# Altium integrated library TI_Logic_Flip-Flop,Latch,Register.IntLib: 2598 symbols (part 16 of 122)
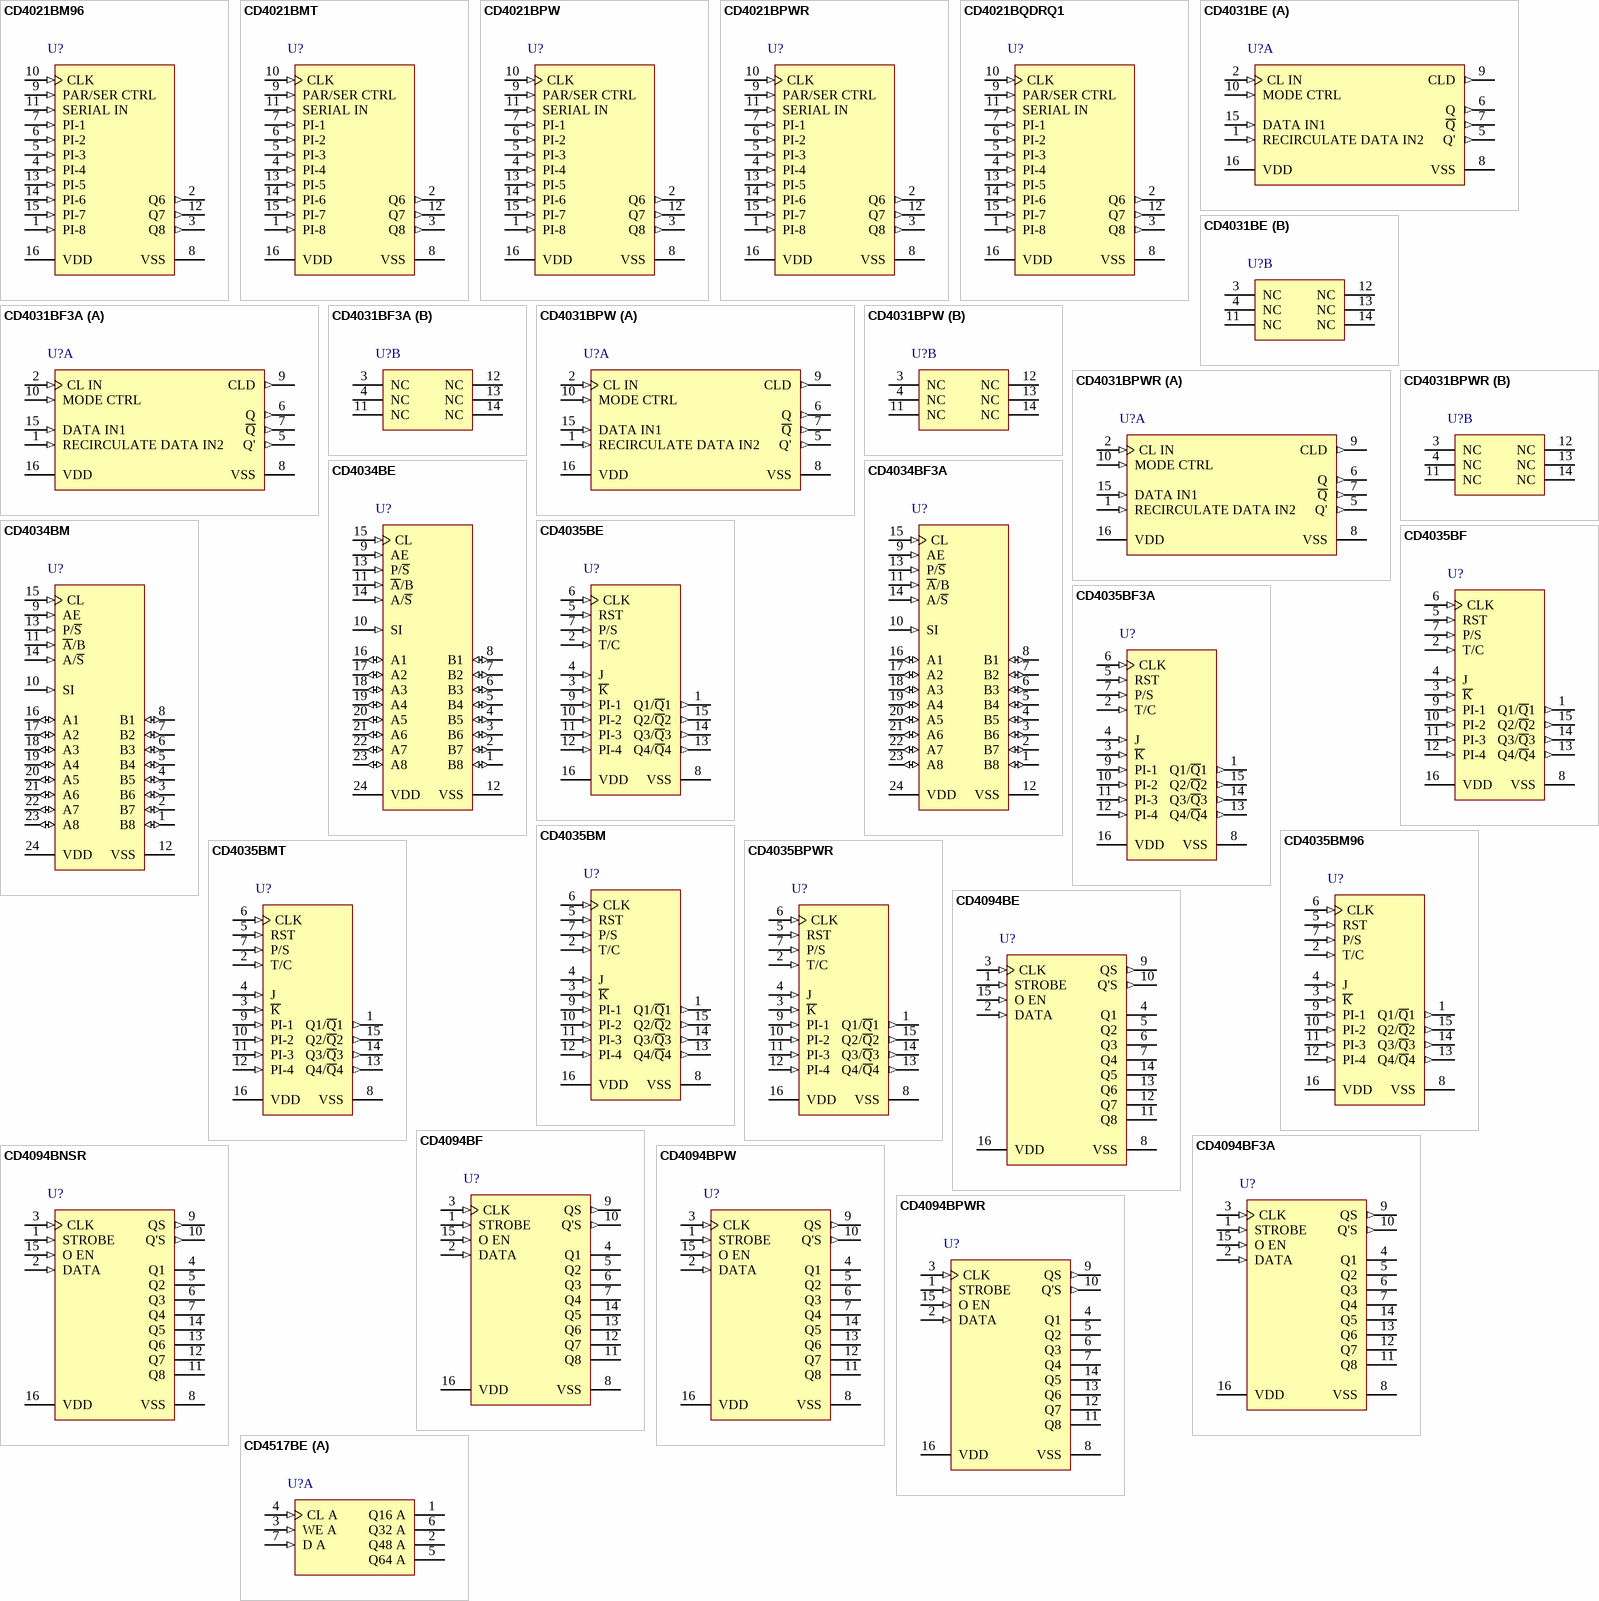
[diagram p154: symbols CD4021BM96 to CD4517BE]

## CD4094BNSR
designator U?
CMOS 8-Stage Shift-and-Store Bus Register, NS0016A, LARGE T&R; Generic Part Number: CD4094B; Manufacturer: Texas Instruments; PartNumber: CD4094BNSR; Technology Family: CD4000; VCC(Min)(V): 3; VCC(Max)(V): 18; Voltage(Nom)(V): 10; F @ Nom Voltage(Max)(Mhz): 8; ICC @ Nom Voltage(Max)(mA): 0.3; tpd @ Nom Voltage(Max)(ns): 250; Output Drive (IOL/IOH)(Max)(mA): 1.5/-1.5; 3-State Output: No; Rating: Catalog; DatasheetVersion: SCHS063B; PackageReference: NS0016A; Input Type: CMOS; Output Type: CMOS; Operating Temperature Range(C): -55 to 125; Bits: 8; ComponentLink1Description: Manufacturer URL; ComponentLink1URL: http://www.ti.com/; ComponentLink2Description: Datasheet; ComponentLink2URL: http://www.ti.com/lit/ds/symlink/cd4094b.pdf; ComponentLink3Description: Package Specification; ComponentLink3URL: http://www.ti.com/lit/ml/msop002a/msop002a.pdf
footprint NS0016A_N (SOIC,16-Leads,Body 10.5x5.6mm,Pitch 1.27mm,IPC Medium Density)
footprint NS0016A_M (SOIC,16-Leads,Body 10.5x5.6mm,Pitch 1.27mm,IPC Low Density)
footprint NS0016A_L (SOIC,16-Leads,Body 10.5x5.6mm,Pitch 1.27mm,IPC High Density)
pins: 1 STROBE (in), 2 DATA (in), 3 CLK (in), 4 Q1 (hiz), 5 Q2 (hiz), 6 Q3 (hiz), 7 Q4 (hiz), 8 VSS (power), 9 QS (out), 10 Q'S (out), 11 Q8 (hiz), 12 Q7 (hiz), 13 Q6 (hiz), 14 Q5 (hiz), 15 O EN (in), 16 VDD (power)

## CD4094BPW
designator U?
CMOS 8-Stage Shift-and-Store Bus Register, PW0016A, TUBE; Generic Part Number: CD4094B; Manufacturer: Texas Instruments; PartNumber: CD4094BPW; Technology Family: CD4000; VCC(Min)(V): 3; VCC(Max)(V): 18; Voltage(Nom)(V): 10; F @ Nom Voltage(Max)(Mhz): 8; ICC @ Nom Voltage(Max)(mA): 0.3; tpd @ Nom Voltage(Max)(ns): 250; Output Drive (IOL/IOH)(Max)(mA): 1.5/-1.5; 3-State Output: No; Rating: Catalog; DatasheetVersion: SCHS063B; PackageReference: PW0016A; Input Type: CMOS; Output Type: CMOS; Operating Temperature Range(C): -55 to 125; Bits: 8; Code_JEDEC: MO-153; ComponentLink1Description: Manufacturer URL; ComponentLink1URL: http://www.ti.com/; ComponentLink2Description: Datasheet; ComponentLink2URL: http://www.ti.com/lit/ds/symlink/cd4094b.pdf; ComponentLink3Description: Package Specification; ComponentLink3URL: http://www.ti.com/lit/ml/mpds361/mpds361.pdf
footprint PW0016A_N (SOP, 16-Leads, Body 5.1x4.5mm, Pitch 0.65mm, IPC Medium Density)
footprint PW0016A_M (SOP, 16-Leads, Body 5.1x4.5mm, Pitch 0.65mm, IPC Low Density)
footprint PW0016A_L (SOP, 16-Leads, Body 5.1x4.5mm, Pitch 0.65mm, IPC High Density)
pins: 1 STROBE (in), 2 DATA (in), 3 CLK (in), 4 Q1 (hiz), 5 Q2 (hiz), 6 Q3 (hiz), 7 Q4 (hiz), 8 VSS (power), 9 QS (out), 10 Q'S (out), 11 Q8 (hiz), 12 Q7 (hiz), 13 Q6 (hiz), 14 Q5 (hiz), 15 O EN (in), 16 VDD (power)

## CD4094BPWR
designator U?
CMOS 8-Stage Shift-and-Store Bus Register, PW0016A, LARGE T&R; Generic Part Number: CD4094B; Manufacturer: Texas Instruments; PartNumber: CD4094BPWR; Technology Family: CD4000; VCC(Min)(V): 3; VCC(Max)(V): 18; Voltage(Nom)(V): 10; F @ Nom Voltage(Max)(Mhz): 8; ICC @ Nom Voltage(Max)(mA): 0.3; tpd @ Nom Voltage(Max)(ns): 250; Output Drive (IOL/IOH)(Max)(mA): 1.5/-1.5; 3-State Output: No; Rating: Catalog; DatasheetVersion: SCHS063B; PackageReference: PW0016A; Input Type: CMOS; Output Type: CMOS; Operating Temperature Range(C): -55 to 125; Bits: 8; Code_JEDEC: MO-153; ComponentLink1Description: Manufacturer URL; ComponentLink1URL: http://www.ti.com/; ComponentLink2Description: Datasheet; ComponentLink2URL: http://www.ti.com/lit/ds/symlink/cd4094b.pdf; ComponentLink3Description: Package Specification; ComponentLink3URL: http://www.ti.com/lit/ml/mpds361/mpds361.pdf
footprint PW0016A_N (SOP, 16-Leads, Body 5.1x4.5mm, Pitch 0.65mm, IPC Medium Density)
footprint PW0016A_M (SOP, 16-Leads, Body 5.1x4.5mm, Pitch 0.65mm, IPC Low Density)
footprint PW0016A_L (SOP, 16-Leads, Body 5.1x4.5mm, Pitch 0.65mm, IPC High Density)
pins: 1 STROBE (in), 2 DATA (in), 3 CLK (in), 4 Q1 (hiz), 5 Q2 (hiz), 6 Q3 (hiz), 7 Q4 (hiz), 8 VSS (power), 9 QS (out), 10 Q'S (out), 11 Q8 (hiz), 12 Q7 (hiz), 13 Q6 (hiz), 14 Q5 (hiz), 15 O EN (in), 16 VDD (power)

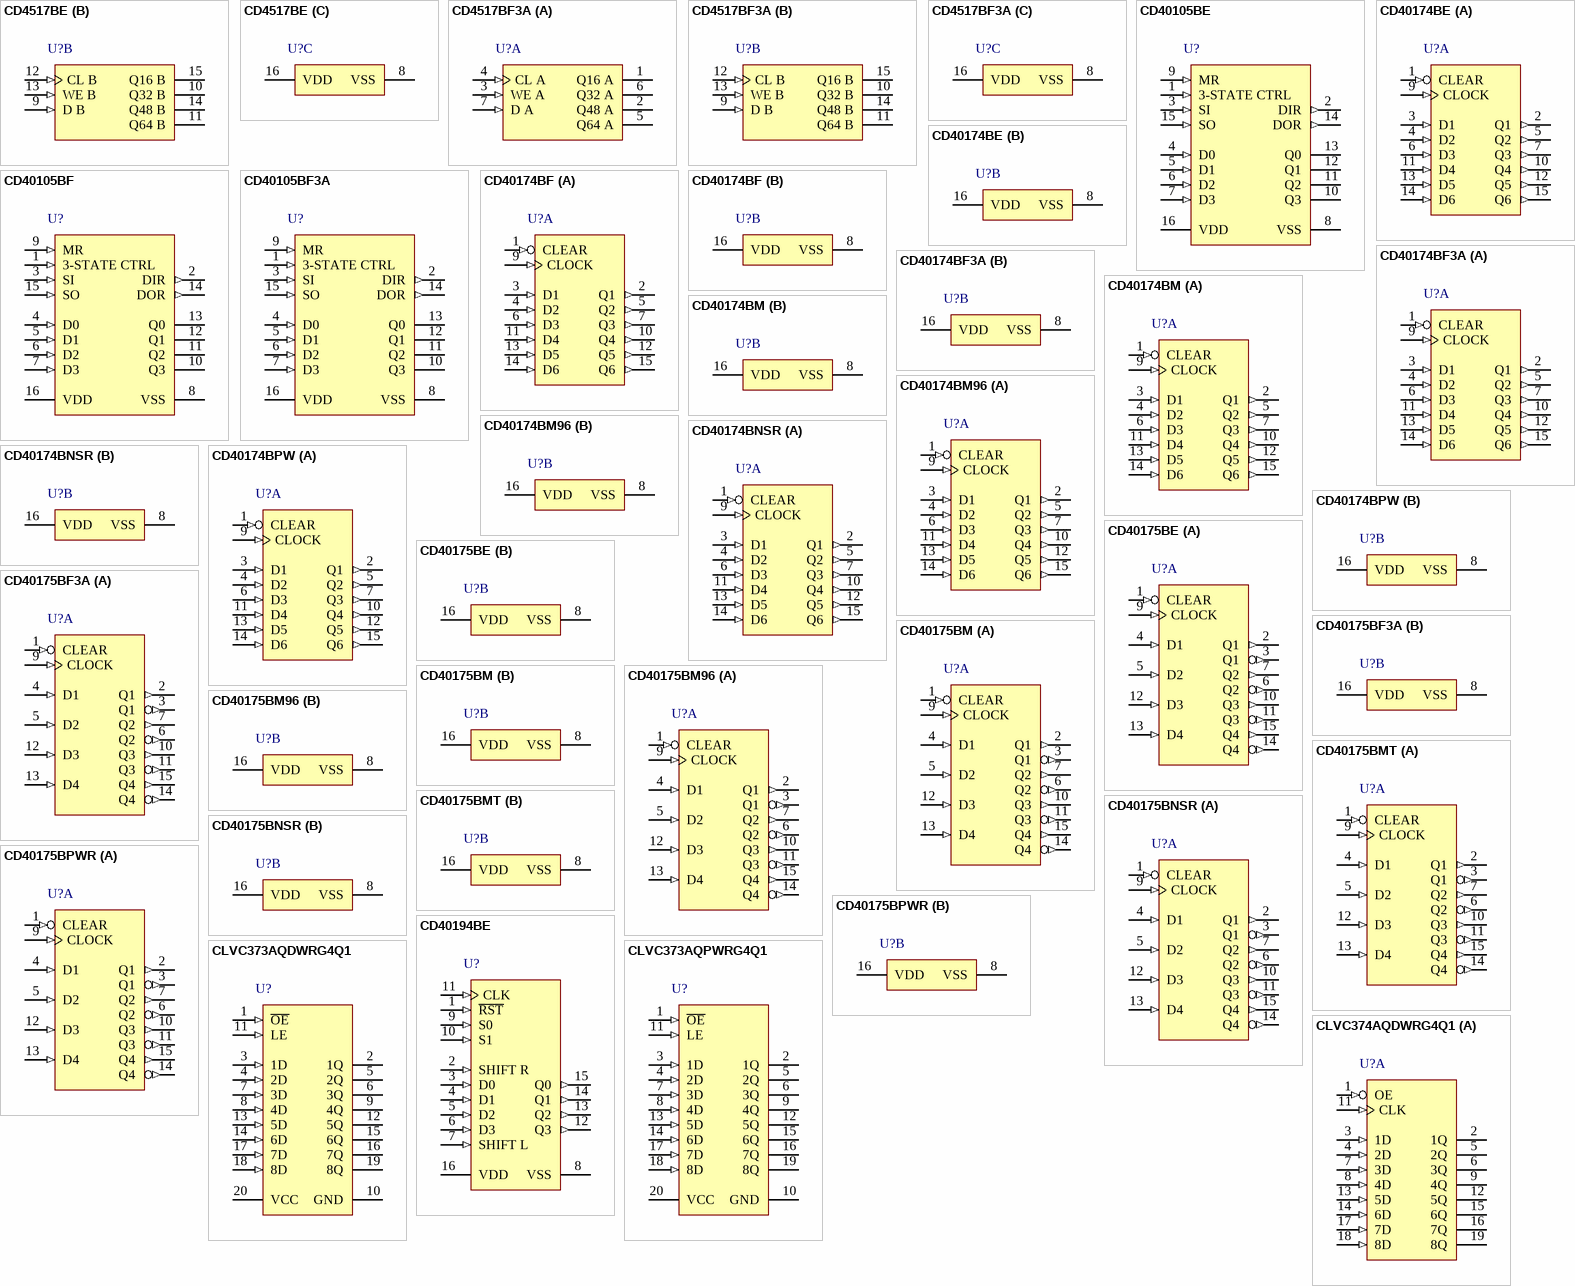
[diagram p22: symbols CD4517BE to CLVC374AQDWRG4Q1]

## CD4517BE
designator U?
CMOS Dual 64-Stage Static Shift Register, N0016A, TUBE; Generic Part Number: CD4517B; Manufacturer: Texas Instruments; PartNumber: CD4517BE; Technology Family: CD4000; VCC(Min)(V): 3; VCC(Max)(V): 18; Voltage(Nom)(V): 10; F @ Nom Voltage(Max)(Mhz): 8; ICC @ Nom Voltage(Max)(mA): 0.3; tpd @ Nom Voltage(Max)(ns): 220; Output Drive (IOL/IOH)(Max)(mA): 1.5/-1.5; 3-State Output: No; Rating: Catalog; DatasheetVersion: SCHS075; PackageReference: N0016A; Input Type: CMOS; Output Type: CMOS; Operating Temperature Range(C): -55 to 125; Bits: 8; Code_JEDEC: MS-001; ComponentLink1Description: Manufacturer URL; ComponentLink1URL: http://www.ti.com/; ComponentLink2Description: Datasheet; ComponentLink2URL: http://www.ti.com/lit/ds/symlink/cd4517b.pdf; ComponentLink3Description: Package Specification; ComponentLink3URL: http://www.ti.com/lit/ml/mpdi002c/mpdi002c.pdf
footprint N0016A (DIP, 16-Leads, Body 19.7x6.6mm, Pitch 2.54mm)
part A pins: 1 Q16 A (hiz), 2 Q48 A (hiz), 3 WE A (in), 4 CL A (in), 5 Q64 A (hiz), 6 Q32 A (hiz), 7 D A (in)
part B pins: 9 D B (in), 10 Q32 B (hiz), 11 Q64 B (hiz), 12 CL B (in), 13 WE B (in), 14 Q48 B (hiz), 15 Q16 B (hiz)
part C pins: 8 VSS (power), 16 VDD (power)

## CD4517BF3A
designator U?
CMOS Dual 64-Stage Static Shift Register, J0016A, TUBE; Generic Part Number: CD4517B-MIL; Manufacturer: Texas Instruments; PartNumber: CD4517BF3A; Technology Family: CD4000; VCC(Min)(V): 3; VCC(Max)(V): 18; Voltage(Nom)(V): 10; F @ Nom Voltage(Max)(Mhz): 8; ICC @ Nom Voltage(Max)(mA): 0.3; tpd @ Nom Voltage(Max)(ns): 220; Output Drive (IOL/IOH)(Max)(mA): 1.5/-1.5; 3-State Output: No; Rating: Military; DatasheetVersion: SCHS075; PackageReference: J0016A; Input Type: CMOS; Output Type: CMOS; Operating Temperature Range(C): -55 to 125; ComponentLink1Description: Manufacturer URL; ComponentLink1URL: http://www.ti.com/; ComponentLink2Description: Datasheet; ComponentLink2URL: http://www.ti.com/lit/ds/symlink/cd4517b-mil.pdf; ComponentLink3Description: Package Specification; ComponentLink3URL: http://www.ti.com/lit/ml/mcer002d/mcer002d.pdf
footprint J0016A (DIP, 16-Leads, Body 21.35x7.2mm, Pitch 2.54mm)
part A pins: 1 Q16 A (hiz), 2 Q48 A (hiz), 3 WE A (in), 4 CL A (in), 5 Q64 A (hiz), 6 Q32 A (hiz), 7 D A (in)
part B pins: 9 D B (in), 10 Q32 B (hiz), 11 Q64 B (hiz), 12 CL B (in), 13 WE B (in), 14 Q48 B (hiz), 15 Q16 B (hiz)
part C pins: 8 VSS (power), 16 VDD (power)

## CD40105BE
designator U?
CMOS 4-Bit-by-16-Word FIFO Register, N0016A, TUBE; Generic Part Number: CD40105B; Manufacturer: Texas Instruments; PartNumber: CD40105BE; Voltage Nodes(V): 5, 10, 15; Rating: Military; DatasheetVersion: SCHS096; PackageReference: N0016A; Operating Temperature Range(C): -55 to 125; Code_JEDEC: MS-001; ComponentLink1Description: Manufacturer URL; ComponentLink1URL: http://www.ti.com/; ComponentLink2Description: Datasheet; ComponentLink2URL: http://www.ti.com/lit/ds/symlink/cd40105b.pdf; ComponentLink3Description: Package Specification; ComponentLink3URL: http://www.ti.com/lit/ml/mpdi002c/mpdi002c.pdf
footprint N0016A (DIP, 16-Leads, Body 19.7x6.6mm, Pitch 2.54mm)
pins: 1 3-STATE CTRL (in), 2 DIR (out), 3 SI (in), 4 D0 (in), 5 D1 (in), 6 D2 (in), 7 D3 (in), 8 VSS (power), 9 MR (in), 10 Q3 (hiz), 11 Q2 (hiz), 12 Q1 (hiz), 13 Q0 (hiz), 14 DOR (out), 15 SO (in), 16 VDD (power)

## CD40105BF
designator U?
CMOS 4-Bit-by-16-Word FIFO Register, J0016A, TUBE; Generic Part Number: CD40105B-MIL; Manufacturer: Texas Instruments; PartNumber: CD40105BF; Voltage Nodes(V): 5, 10, 15; Rating: Military; DatasheetVersion: SCHS096; PackageReference: J0016A; Operating Temperature Range(C): -55 to 125; ComponentLink1Description: Manufacturer URL; ComponentLink1URL: http://www.ti.com/; ComponentLink2Description: Datasheet; ComponentLink2URL: http://www.ti.com/lit/ds/symlink/cd40105b-mil.pdf; ComponentLink3Description: Package Specification; ComponentLink3URL: http://www.ti.com/lit/ml/mcer002d/mcer002d.pdf
footprint J0016A (DIP, 16-Leads, Body 21.35x7.2mm, Pitch 2.54mm)
pins: 1 3-STATE CTRL (in), 2 DIR (out), 3 SI (in), 4 D0 (in), 5 D1 (in), 6 D2 (in), 7 D3 (in), 8 VSS (power), 9 MR (in), 10 Q3 (hiz), 11 Q2 (hiz), 12 Q1 (hiz), 13 Q0 (hiz), 14 DOR (out), 15 SO (in), 16 VDD (power)

## CD40105BF3A
designator U?
CMOS 4-Bit-by-16-Word FIFO Register, J0016A, TUBE; Generic Part Number: CD40105B-MIL; Manufacturer: Texas Instruments; PartNumber: CD40105BF3A; Voltage Nodes(V): 5, 10, 15; Rating: Military; DatasheetVersion: SCHS096; PackageReference: J0016A; Operating Temperature Range(C): -55 to 125; ComponentLink1Description: Manufacturer URL; ComponentLink1URL: http://www.ti.com/; ComponentLink2Description: Datasheet; ComponentLink2URL: http://www.ti.com/lit/ds/symlink/cd40105b-mil.pdf; ComponentLink3Description: Package Specification; ComponentLink3URL: http://www.ti.com/lit/ml/mcer002d/mcer002d.pdf
footprint J0016A (DIP, 16-Leads, Body 21.35x7.2mm, Pitch 2.54mm)
pins: 1 3-STATE CTRL (in), 2 DIR (out), 3 SI (in), 4 D0 (in), 5 D1 (in), 6 D2 (in), 7 D3 (in), 8 VSS (power), 9 MR (in), 10 Q3 (hiz), 11 Q2 (hiz), 12 Q1 (hiz), 13 Q0 (hiz), 14 DOR (out), 15 SO (in), 16 VDD (power)

## CD40174BE
designator U?
CMOS Hex D-Type Flip-Flop, N0016A, TUBE; Generic Part Number: CD40174B; Manufacturer: Texas Instruments; PartNumber: CD40174BE; VCC(Max)(V): 18; VCC(Min)(V): 3; ICC @ Nom Voltage(Max)(mA): 0.06; Bits(#): 6; F @ Nom Voltage(Max)(Mhz): 8; Rating: Catalog; Technology Family: CD4000; Voltage(Nom)(V): 10; Schmitt Trigger: No; Output Drive (IOL/IOH)(Max)(mA): 1.5/-1.5; Output Logic: Non-inverted; tpd @ Nom Voltage(Max)(ns): 140; DatasheetVersion: SCHS104C; PackageReference: N0016A; Supplier 1: Digi-Key; Supplier Part Number 1: 296-3508-5-ND; Supplier 2: Farnell; Supplier Part Number 2: 9594540; Supplier 3: Newark; Supplier Part Number 3: 68K1098; Supplier 4: Mouser; Supplier Part Number 4: 595-CD40174BE; Output Type: CMOS; Input Type: CMOS; Operating Temperature Range(C): -55 to 125; 3-State Output: No; Code_JEDEC: MS-001; ComponentLink1Description: Manufacturer URL; ComponentLink1URL: http://www.ti.com/; ComponentLink2Description: Datasheet; ComponentLink2URL: http://www.ti.com/lit/ds/symlink/cd40174b.pdf; ComponentLink3Description: Package Specification; ComponentLink3URL: http://www.ti.com/lit/ml/mpdi002c/mpdi002c.pdf
footprint N0016A (DIP, 16-Leads, Body 19.7x6.6mm, Pitch 2.54mm)
part A pins: 1 CLEAR (in), 2 Q1 (out), 3 D1 (in), 4 D2 (in), 5 Q2 (out), 6 D3 (in), 7 Q3 (out), 9 CLOCK (in), 10 Q4 (out), 11 D4 (in), 12 Q5 (out), 13 D5 (in), 14 D6 (in), 15 Q6 (out)
part B pins: 8 VSS (power), 16 VDD (power)

## CD40174BF
designator U?
CMOS Hex D-Type Flip-Flop, J0016A, TUBE; Generic Part Number: CD40174B-MIL; Manufacturer: Texas Instruments; PartNumber: CD40174BF; VCC(Max)(V): 18; VCC(Min)(V): 3; ICC @ Nom Voltage(Max)(mA): 0.06; Bits(#): 6; F @ Nom Voltage(Max)(Mhz): 8; Rating: Military; Technology Family: CD4000; Voltage(Nom)(V): 10; Schmitt Trigger: No; Output Drive (IOL/IOH)(Max)(mA): 1.5/-1.5; Output Logic: Non-inverted; tpd @ Nom Voltage(Max)(ns): 140; DatasheetVersion: SCHS104C; PackageReference: J0016A; Output Type: CMOS; Input Type: CMOS; Operating Temperature Range(C): -55 to 125; 3-State Output: No; ComponentLink1Description: Manufacturer URL; ComponentLink1URL: http://www.ti.com/; ComponentLink2Description: Datasheet; ComponentLink2URL: http://www.ti.com/lit/ds/symlink/cd40174b-mil.pdf; ComponentLink3Description: Package Specification; ComponentLink3URL: http://www.ti.com/lit/ml/mcer002d/mcer002d.pdf
footprint J0016A (DIP, 16-Leads, Body 21.35x7.2mm, Pitch 2.54mm)
part A pins: 1 CLEAR (in), 2 Q1 (out), 3 D1 (in), 4 D2 (in), 5 Q2 (out), 6 D3 (in), 7 Q3 (out), 9 CLOCK (in), 10 Q4 (out), 11 D4 (in), 12 Q5 (out), 13 D5 (in), 14 D6 (in), 15 Q6 (out)
part B pins: 8 VSS (power), 16 VDD (power)

## CD40174BF3A
designator U?
CMOS Hex D-Type Flip-Flop, J0016A, TUBE; Generic Part Number: CD40174B-MIL; Manufacturer: Texas Instruments; PartNumber: CD40174BF3A; VCC(Max)(V): 18; VCC(Min)(V): 3; ICC @ Nom Voltage(Max)(mA): 0.06; Bits(#): 6; F @ Nom Voltage(Max)(Mhz): 8; Rating: Military; Technology Family: CD4000; Voltage(Nom)(V): 10; Schmitt Trigger: No; Output Drive (IOL/IOH)(Max)(mA): 1.5/-1.5; Output Logic: Non-inverted; tpd @ Nom Voltage(Max)(ns): 140; DatasheetVersion: SCHS104C; PackageReference: J0016A; Output Type: CMOS; Input Type: CMOS; Operating Temperature Range(C): -55 to 125; 3-State Output: No; ComponentLink1Description: Manufacturer URL; ComponentLink1URL: http://www.ti.com/; ComponentLink2Description: Datasheet; ComponentLink2URL: http://www.ti.com/lit/ds/symlink/cd40174b-mil.pdf; ComponentLink3Description: Package Specification; ComponentLink3URL: http://www.ti.com/lit/ml/mcer002d/mcer002d.pdf
footprint J0016A (DIP, 16-Leads, Body 21.35x7.2mm, Pitch 2.54mm)
part A pins: 1 CLEAR (in), 2 Q1 (out), 3 D1 (in), 4 D2 (in), 5 Q2 (out), 6 D3 (in), 7 Q3 (out), 9 CLOCK (in), 10 Q4 (out), 11 D4 (in), 12 Q5 (out), 13 D5 (in), 14 D6 (in), 15 Q6 (out)
part B pins: 8 VSS (power), 16 VDD (power)

## CD40174BM
designator U?
CMOS Hex D-Type Flip-Flop, D0016A, TUBE; Generic Part Number: CD40174B; Manufacturer: Texas Instruments; PartNumber: CD40174BM; VCC(Max)(V): 18; VCC(Min)(V): 3; ICC @ Nom Voltage(Max)(mA): 0.06; Bits(#): 6; F @ Nom Voltage(Max)(Mhz): 8; Rating: Catalog; Technology Family: CD4000; Voltage(Nom)(V): 10; Schmitt Trigger: No; Output Drive (IOL/IOH)(Max)(mA): 1.5/-1.5; Output Logic: Non-inverted; tpd @ Nom Voltage(Max)(ns): 140; DatasheetVersion: SCHS104C; PackageReference: D0016A; Supplier 1: Digi-Key; Supplier Part Number 1: CD40174BM-ND; Supplier 2: Farnell; Supplier Part Number 2: 1741071; Supplier 3: Newark; Supplier Part Number 3: 50R5016; Supplier 4: Mouser; Supplier Part Number 4: 595-CD40174BM; Output Type: CMOS; Input Type: CMOS; Operating Temperature Range(C): -55 to 125; 3-State Output: No; Code_JEDEC: MS-012 variation AC; ComponentLink1Description: Manufacturer URL; ComponentLink1URL: http://www.ti.com/; ComponentLink2Description: Datasheet; ComponentLink2URL: http://www.ti.com/lit/ds/symlink/cd40174b.pdf; ComponentLink3Description: Package Specification; ComponentLink3URL: http://www.ti.com/lit/ml/mpds178g/mpds178g.pdf
footprint D0016A_N (SOIC, 16-Leads, Body 10x4mm, Pitch 1.27mm, IPC Medium Density)
footprint D0016A_M (SOIC, 16-Leads, Body 10x4mm, Pitch 1.27mm, IPC Low Density)
footprint D0016A_L (SOIC, 16-Leads, Body 10x4mm, Pitch 1.27mm, IPC High Density)
part A pins: 1 CLEAR (in), 2 Q1 (out), 3 D1 (in), 4 D2 (in), 5 Q2 (out), 6 D3 (in), 7 Q3 (out), 9 CLOCK (in), 10 Q4 (out), 11 D4 (in), 12 Q5 (out), 13 D5 (in), 14 D6 (in), 15 Q6 (out)
part B pins: 8 VSS (power), 16 VDD (power)

## CD40174BM96
designator U?
CMOS Hex D-Type Flip-Flop, D0016A, LARGE T&R; Generic Part Number: CD40174B; Manufacturer: Texas Instruments; PartNumber: CD40174BM96; VCC(Max)(V): 18; VCC(Min)(V): 3; ICC @ Nom Voltage(Max)(mA): 0.06; Bits(#): 6; F @ Nom Voltage(Max)(Mhz): 8; Rating: Catalog; Technology Family: CD4000; Voltage(Nom)(V): 10; Schmitt Trigger: No; Output Drive (IOL/IOH)(Max)(mA): 1.5/-1.5; Output Logic: Non-inverted; tpd @ Nom Voltage(Max)(ns): 140; DatasheetVersion: SCHS104C; PackageReference: D0016A; Supplier 1: Digi-Key; Supplier Part Number 1: 296-31490-2-ND; Supplier 2: Digi-Key; Supplier Part Number 2: 296-31490-1-ND; Supplier 3: Digi-Key; Supplier Part Number 3: 296-31490-6-ND; Supplier 4: Mouser; Supplier Part Number 4: 595-CD40174BM96; Output Type: CMOS; Input Type: CMOS; Operating Temperature Range(C): -55 to 125; 3-State Output: No; Code_JEDEC: MS-012 variation AC; ComponentLink1Description: Manufacturer URL; ComponentLink1URL: http://www.ti.com/; ComponentLink2Description: Datasheet; ComponentLink2URL: http://www.ti.com/lit/ds/symlink/cd40174b.pdf; ComponentLink3Description: Package Specification; ComponentLink3URL: http://www.ti.com/lit/ml/mpds178g/mpds178g.pdf
footprint D0016A_N (SOIC, 16-Leads, Body 10x4mm, Pitch 1.27mm, IPC Medium Density)
footprint D0016A_M (SOIC, 16-Leads, Body 10x4mm, Pitch 1.27mm, IPC Low Density)
footprint D0016A_L (SOIC, 16-Leads, Body 10x4mm, Pitch 1.27mm, IPC High Density)
part A pins: 1 CLEAR (in), 2 Q1 (out), 3 D1 (in), 4 D2 (in), 5 Q2 (out), 6 D3 (in), 7 Q3 (out), 9 CLOCK (in), 10 Q4 (out), 11 D4 (in), 12 Q5 (out), 13 D5 (in), 14 D6 (in), 15 Q6 (out)
part B pins: 8 VSS (power), 16 VDD (power)

## CD40174BNSR
designator U?
CMOS Hex D-Type Flip-Flop, NS0016A, LARGE T&R; Generic Part Number: CD40174B; Manufacturer: Texas Instruments; PartNumber: CD40174BNSR; VCC(Max)(V): 18; VCC(Min)(V): 3; ICC @ Nom Voltage(Max)(mA): 0.06; Bits(#): 6; F @ Nom Voltage(Max)(Mhz): 8; Rating: Catalog; Technology Family: CD4000; Voltage(Nom)(V): 10; Schmitt Trigger: No; Output Drive (IOL/IOH)(Max)(mA): 1.5/-1.5; Output Logic: Non-inverted; tpd @ Nom Voltage(Max)(ns): 140; DatasheetVersion: SCHS104C; PackageReference: NS0016A; Supplier 1: Digi-Key; Supplier Part Number 1: 296-29110-2-ND; Supplier 2: Digi-Key; Supplier Part Number 2: 296-29110-1-ND; Supplier 3: Digi-Key; Supplier Part Number 3: 296-29110-6-ND; Supplier 4: Mouser; Supplier Part Number 4: 595-CD40174BNSR; Output Type: CMOS; Input Type: CMOS; Operating Temperature Range(C): -55 to 125; 3-State Output: No; ComponentLink1Description: Manufacturer URL; ComponentLink1URL: http://www.ti.com/; ComponentLink2Description: Datasheet; ComponentLink2URL: http://www.ti.com/lit/ds/symlink/cd40174b.pdf; ComponentLink3Description: Package Specification; ComponentLink3URL: http://www.ti.com/lit/ml/msop002a/msop002a.pdf
footprint NS0016A_N (SOIC,16-Leads,Body 10.5x5.6mm,Pitch 1.27mm,IPC Medium Density)
footprint NS0016A_M (SOIC,16-Leads,Body 10.5x5.6mm,Pitch 1.27mm,IPC Low Density)
footprint NS0016A_L (SOIC,16-Leads,Body 10.5x5.6mm,Pitch 1.27mm,IPC High Density)
part A pins: 1 CLEAR (in), 2 Q1 (out), 3 D1 (in), 4 D2 (in), 5 Q2 (out), 6 D3 (in), 7 Q3 (out), 9 CLOCK (in), 10 Q4 (out), 11 D4 (in), 12 Q5 (out), 13 D5 (in), 14 D6 (in), 15 Q6 (out)
part B pins: 8 VSS (power), 16 VDD (power)

## CD40174BPW
designator U?
CMOS Hex D-Type Flip-Flop, PW0016A, TUBE; Generic Part Number: CD40174B; Manufacturer: Texas Instruments; PartNumber: CD40174BPW; VCC(Max)(V): 18; VCC(Min)(V): 3; ICC @ Nom Voltage(Max)(mA): 0.06; Bits(#): 6; F @ Nom Voltage(Max)(Mhz): 8; Rating: Catalog; Technology Family: CD4000; Voltage(Nom)(V): 10; Schmitt Trigger: No; Output Drive (IOL/IOH)(Max)(mA): 1.5/-1.5; Output Logic: Non-inverted; tpd @ Nom Voltage(Max)(ns): 140; DatasheetVersion: SCHS104C; PackageReference: PW0016A; Supplier 1: Digi-Key; Supplier Part Number 1: 296-32866-5-ND; Supplier 2: Farnell; Supplier Part Number 2: 1753384; Supplier 3: Mouser; Supplier Part Number 3: 595-CD40174BPW; Output Type: CMOS; Input Type: CMOS; Operating Temperature Range(C): -55 to 125; 3-State Output: No; Code_JEDEC: MO-153; ComponentLink1Description: Manufacturer URL; ComponentLink1URL: http://www.ti.com/; ComponentLink2Description: Datasheet; ComponentLink2URL: http://www.ti.com/lit/ds/symlink/cd40174b.pdf; ComponentLink3Description: Package Specification; ComponentLink3URL: http://www.ti.com/lit/ml/mpds361/mpds361.pdf
footprint PW0016A_N (SOP, 16-Leads, Body 5.1x4.5mm, Pitch 0.65mm, IPC Medium Density)
footprint PW0016A_M (SOP, 16-Leads, Body 5.1x4.5mm, Pitch 0.65mm, IPC Low Density)
footprint PW0016A_L (SOP, 16-Leads, Body 5.1x4.5mm, Pitch 0.65mm, IPC High Density)
part A pins: 1 CLEAR (in), 2 Q1 (out), 3 D1 (in), 4 D2 (in), 5 Q2 (out), 6 D3 (in), 7 Q3 (out), 9 CLOCK (in), 10 Q4 (out), 11 D4 (in), 12 Q5 (out), 13 D5 (in), 14 D6 (in), 15 Q6 (out)
part B pins: 8 VSS (power), 16 VDD (power)

## CD40175BE
designator U?
CMOS Quad D-Type Flip-Flop, N0016A, TUBE; Generic Part Number: CD40175B; Manufacturer: Texas Instruments; PartNumber: CD40175BE; VCC(Max)(V): 18; VCC(Min)(V): 3; ICC @ Nom Voltage(Max)(mA): 0.06; Bits(#): 4; F @ Nom Voltage(Max)(Mhz): 8; Rating: Military; Technology Family: CD4000; Voltage(Nom)(V): 10; Schmitt Trigger: No; Output Drive (IOL/IOH)(Max)(mA): 1.5/-1.5; Output Logic: Inverted,Non-inverted; tpd @ Nom Voltage(Max)(ns): 160; DatasheetVersion: SCHS105C; PackageReference: N0016A; Supplier 1: Digi-Key; Supplier Part Number 1: 296-14251-5-ND; Supplier 2: Farnell; Supplier Part Number 2: 1739830; Supplier 3: Mouser; Supplier Part Number 3: 595-CD40175BE; Output Type: CMOS; Input Type: CMOS; Operating Temperature Range(C): -55 to 125; 3-State Output: No; Code_JEDEC: MS-001; ComponentLink1Description: Manufacturer URL; ComponentLink1URL: http://www.ti.com/; ComponentLink2Description: Datasheet; ComponentLink2URL: http://www.ti.com/lit/ds/symlink/cd40175b.pdf; ComponentLink3Description: Package Specification; ComponentLink3URL: http://www.ti.com/lit/ml/mpdi002c/mpdi002c.pdf
footprint N0016A (DIP, 16-Leads, Body 19.7x6.6mm, Pitch 2.54mm)
part A pins: 1 CLEAR (in), 2 Q1 (out), 3 Q1 (out), 4 D1 (in), 5 D2 (in), 6 Q2 (out), 7 Q2 (out), 9 CLOCK (in), 10 Q3 (out), 11 Q3 (out), 12 D3 (in), 13 D4 (in), 14 Q4 (out), 15 Q4 (out)
part B pins: 8 VSS (power), 16 VDD (power)

## CD40175BF3A
designator U?
CMOS Quad D-Type Flip-Flop, J0016A, TUBE; Generic Part Number: CD40175B-MIL; Manufacturer: Texas Instruments; PartNumber: CD40175BF3A; VCC(Max)(V): 18; VCC(Min)(V): 3; ICC @ Nom Voltage(Max)(mA): 0.06; Bits(#): 4; F @ Nom Voltage(Max)(Mhz): 8; Rating: Military; Technology Family: CD4000; Voltage(Nom)(V): 10; Schmitt Trigger: No; Output Drive (IOL/IOH)(Max)(mA): 1.5/-1.5; Output Logic: Inverted,Non-inverted; tpd @ Nom Voltage(Max)(ns): 160; DatasheetVersion: SCHS105C; PackageReference: J0016A; Output Type: CMOS; Input Type: CMOS; Operating Temperature Range(C): -55 to 125; 3-State Output: No; ComponentLink1Description: Manufacturer URL; ComponentLink1URL: http://www.ti.com/; ComponentLink2Description: Datasheet; ComponentLink2URL: http://www.ti.com/lit/ds/symlink/cd40175b-mil.pdf; ComponentLink3Description: Package Specification; ComponentLink3URL: http://www.ti.com/lit/ml/mcer002d/mcer002d.pdf
footprint J0016A (DIP, 16-Leads, Body 21.35x7.2mm, Pitch 2.54mm)
part A pins: 1 CLEAR (in), 2 Q1 (out), 3 Q1 (out), 4 D1 (in), 5 D2 (in), 6 Q2 (out), 7 Q2 (out), 9 CLOCK (in), 10 Q3 (out), 11 Q3 (out), 12 D3 (in), 13 D4 (in), 14 Q4 (out), 15 Q4 (out)
part B pins: 8 VSS (power), 16 VDD (power)

## CD40175BM
designator U?
CMOS Quad D-Type Flip-Flop, D0016A, TUBE; Generic Part Number: CD40175B; Manufacturer: Texas Instruments; PartNumber: CD40175BM; VCC(Max)(V): 18; VCC(Min)(V): 3; ICC @ Nom Voltage(Max)(mA): 0.06; Bits(#): 4; F @ Nom Voltage(Max)(Mhz): 8; Rating: Military; Technology Family: CD4000; Voltage(Nom)(V): 10; Schmitt Trigger: No; Output Drive (IOL/IOH)(Max)(mA): 1.5/-1.5; Output Logic: Inverted,Non-inverted; tpd @ Nom Voltage(Max)(ns): 160; DatasheetVersion: SCHS105C; PackageReference: D0016A; Supplier 1: Digi-Key; Supplier Part Number 1: 296-32867-5-ND; Supplier 2: Farnell; Supplier Part Number 2: 1753385; Supplier 3: Mouser; Supplier Part Number 3: 595-CD40175BM; Output Type: CMOS; Input Type: CMOS; Operating Temperature Range(C): -55 to 125; 3-State Output: No; Code_JEDEC: MS-012 variation AC; ComponentLink1Description: Manufacturer URL; ComponentLink1URL: http://www.ti.com/; ComponentLink2Description: Datasheet; ComponentLink2URL: http://www.ti.com/lit/ds/symlink/cd40175b.pdf; ComponentLink3Description: Package Specification; ComponentLink3URL: http://www.ti.com/lit/ml/mpds178g/mpds178g.pdf
footprint D0016A_N (SOIC, 16-Leads, Body 10x4mm, Pitch 1.27mm, IPC Medium Density)
footprint D0016A_M (SOIC, 16-Leads, Body 10x4mm, Pitch 1.27mm, IPC Low Density)
footprint D0016A_L (SOIC, 16-Leads, Body 10x4mm, Pitch 1.27mm, IPC High Density)
part A pins: 1 CLEAR (in), 2 Q1 (out), 3 Q1 (out), 4 D1 (in), 5 D2 (in), 6 Q2 (out), 7 Q2 (out), 9 CLOCK (in), 10 Q3 (out), 11 Q3 (out), 12 D3 (in), 13 D4 (in), 14 Q4 (out), 15 Q4 (out)
part B pins: 8 VSS (power), 16 VDD (power)

## CD40175BM96
designator U?
CMOS Quad D-Type Flip-Flop, D0016A, LARGE T&R; Generic Part Number: CD40175B; Manufacturer: Texas Instruments; PartNumber: CD40175BM96; VCC(Max)(V): 18; VCC(Min)(V): 3; ICC @ Nom Voltage(Max)(mA): 0.06; Bits(#): 4; F @ Nom Voltage(Max)(Mhz): 8; Rating: Military; Technology Family: CD4000; Voltage(Nom)(V): 10; Schmitt Trigger: No; Output Drive (IOL/IOH)(Max)(mA): 1.5/-1.5; Output Logic: Inverted,Non-inverted; tpd @ Nom Voltage(Max)(ns): 160; DatasheetVersion: SCHS105C; PackageReference: D0016A; Supplier 1: Digi-Key; Supplier Part Number 1: 296-38052-2-ND; Supplier 2: Digi-Key; Supplier Part Number 2: 296-38052-1-ND; Supplier 3: Digi-Key; Supplier Part Number 3: 296-38052-6-ND; Supplier 4: Mouser; Supplier Part Number 4: 595-CD40175BM96; Output Type: CMOS; Input Type: CMOS; Operating Temperature Range(C): -55 to 125; 3-State Output: No; Code_JEDEC: MS-012 variation AC; ComponentLink1Description: Manufacturer URL; ComponentLink1URL: http://www.ti.com/; ComponentLink2Description: Datasheet; ComponentLink2URL: http://www.ti.com/lit/ds/symlink/cd40175b.pdf; ComponentLink3Description: Package Specification; ComponentLink3URL: http://www.ti.com/lit/ml/mpds178g/mpds178g.pdf
footprint D0016A_N (SOIC, 16-Leads, Body 10x4mm, Pitch 1.27mm, IPC Medium Density)
footprint D0016A_M (SOIC, 16-Leads, Body 10x4mm, Pitch 1.27mm, IPC Low Density)
footprint D0016A_L (SOIC, 16-Leads, Body 10x4mm, Pitch 1.27mm, IPC High Density)
part A pins: 1 CLEAR (in), 2 Q1 (out), 3 Q1 (out), 4 D1 (in), 5 D2 (in), 6 Q2 (out), 7 Q2 (out), 9 CLOCK (in), 10 Q3 (out), 11 Q3 (out), 12 D3 (in), 13 D4 (in), 14 Q4 (out), 15 Q4 (out)
part B pins: 8 VSS (power), 16 VDD (power)

## CD40175BMT
designator U?
CMOS Quad D-Type Flip-Flop, D0016A, SMALL T&R; Generic Part Number: CD40175B; Manufacturer: Texas Instruments; PartNumber: CD40175BMT; VCC(Max)(V): 18; VCC(Min)(V): 3; ICC @ Nom Voltage(Max)(mA): 0.06; Bits(#): 4; F @ Nom Voltage(Max)(Mhz): 8; Rating: Military; Technology Family: CD4000; Voltage(Nom)(V): 10; Schmitt Trigger: No; Output Drive (IOL/IOH)(Max)(mA): 1.5/-1.5; Output Logic: Inverted,Non-inverted; tpd @ Nom Voltage(Max)(ns): 160; DatasheetVersion: SCHS105C; PackageReference: D0016A; Supplier 1: Digi-Key; Supplier Part Number 1: 296-32049-2-ND; Supplier 2: Digi-Key; Supplier Part Number 2: 296-32049-1-ND; Supplier 3: Digi-Key; Supplier Part Number 3: 296-32049-6-ND; Supplier 4: Farnell; Supplier Part Number 4: 2406863; Supplier 5: Mouser; Supplier Part Number 5: 595-CD40175BMT; Output Type: CMOS; Input Type: CMOS; Operating Temperature Range(C): -55 to 125; 3-State Output: No; Code_JEDEC: MS-012 variation AC; ComponentLink1Description: Manufacturer URL; ComponentLink1URL: http://www.ti.com/; ComponentLink2Description: Datasheet; ComponentLink2URL: http://www.ti.com/lit/ds/symlink/cd40175b.pdf; ComponentLink3Description: Package Specification; ComponentLink3URL: http://www.ti.com/lit/ml/mpds178g/mpds178g.pdf
footprint D0016A_N (SOIC, 16-Leads, Body 10x4mm, Pitch 1.27mm, IPC Medium Density)
footprint D0016A_M (SOIC, 16-Leads, Body 10x4mm, Pitch 1.27mm, IPC Low Density)
footprint D0016A_L (SOIC, 16-Leads, Body 10x4mm, Pitch 1.27mm, IPC High Density)
part A pins: 1 CLEAR (in), 2 Q1 (out), 3 Q1 (out), 4 D1 (in), 5 D2 (in), 6 Q2 (out), 7 Q2 (out), 9 CLOCK (in), 10 Q3 (out), 11 Q3 (out), 12 D3 (in), 13 D4 (in), 14 Q4 (out), 15 Q4 (out)
part B pins: 8 VSS (power), 16 VDD (power)

## CD40175BNSR
designator U?
CMOS Quad D-Type Flip-Flop, NS0016A, LARGE T&R; Generic Part Number: CD40175B; Manufacturer: Texas Instruments; PartNumber: CD40175BNSR; VCC(Max)(V): 18; VCC(Min)(V): 3; ICC @ Nom Voltage(Max)(mA): 0.06; Bits(#): 4; F @ Nom Voltage(Max)(Mhz): 8; Rating: Military; Technology Family: CD4000; Voltage(Nom)(V): 10; Schmitt Trigger: No; Output Drive (IOL/IOH)(Max)(mA): 1.5/-1.5; Output Logic: Inverted,Non-inverted; tpd @ Nom Voltage(Max)(ns): 160; DatasheetVersion: SCHS105C; PackageReference: NS0016A; Supplier 1: Digi-Key; Supplier Part Number 1: 296-29111-2-ND; Supplier 2: Digi-Key; Supplier Part Number 2: 296-29111-1-ND; Supplier 3: Digi-Key; Supplier Part Number 3: 296-29111-6-ND; Supplier 4: Mouser; Supplier Part Number 4: 595-CD40175BNSR; Output Type: CMOS; Input Type: CMOS; Operating Temperature Range(C): -55 to 125; 3-State Output: No; ComponentLink1Description: Manufacturer URL; ComponentLink1URL: http://www.ti.com/; ComponentLink2Description: Datasheet; ComponentLink2URL: http://www.ti.com/lit/ds/symlink/cd40175b.pdf; ComponentLink3Description: Package Specification; ComponentLink3URL: http://www.ti.com/lit/ml/msop002a/msop002a.pdf
footprint NS0016A_N (SOIC,16-Leads,Body 10.5x5.6mm,Pitch 1.27mm,IPC Medium Density)
footprint NS0016A_M (SOIC,16-Leads,Body 10.5x5.6mm,Pitch 1.27mm,IPC Low Density)
footprint NS0016A_L (SOIC,16-Leads,Body 10.5x5.6mm,Pitch 1.27mm,IPC High Density)
part A pins: 1 CLEAR (in), 2 Q1 (out), 3 Q1 (out), 4 D1 (in), 5 D2 (in), 6 Q2 (out), 7 Q2 (out), 9 CLOCK (in), 10 Q3 (out), 11 Q3 (out), 12 D3 (in), 13 D4 (in), 14 Q4 (out), 15 Q4 (out)
part B pins: 8 VSS (power), 16 VDD (power)

## CD40175BPWR
designator U?
CMOS Quad D-Type Flip-Flop, PW0016A, LARGE T&R; Generic Part Number: CD40175B; Manufacturer: Texas Instruments; PartNumber: CD40175BPWR; VCC(Max)(V): 18; VCC(Min)(V): 3; ICC @ Nom Voltage(Max)(mA): 0.06; Bits(#): 4; F @ Nom Voltage(Max)(Mhz): 8; Rating: Military; Technology Family: CD4000; Voltage(Nom)(V): 10; Schmitt Trigger: No; Output Drive (IOL/IOH)(Max)(mA): 1.5/-1.5; Output Logic: Inverted,Non-inverted; tpd @ Nom Voltage(Max)(ns): 160; DatasheetVersion: SCHS105C; PackageReference: PW0016A; Supplier 1: Digi-Key; Supplier Part Number 1: 296-14093-2-ND; Supplier 2: Digi-Key; Supplier Part Number 2: 296-14093-1-ND; Supplier 3: Digi-Key; Supplier Part Number 3: 296-14093-6-ND; Supplier 4: Mouser; Supplier Part Number 4: 595-CD40175BPWR; Output Type: CMOS; Input Type: CMOS; Operating Temperature Range(C): -55 to 125; 3-State Output: No; Code_JEDEC: MO-153; ComponentLink1Description: Manufacturer URL; ComponentLink1URL: http://www.ti.com/; ComponentLink2Description: Datasheet; ComponentLink2URL: http://www.ti.com/lit/ds/symlink/cd40175b.pdf; ComponentLink3Description: Package Specification; ComponentLink3URL: http://www.ti.com/lit/ml/mpds361/mpds361.pdf
footprint PW0016A_N (SOP, 16-Leads, Body 5.1x4.5mm, Pitch 0.65mm, IPC Medium Density)
footprint PW0016A_M (SOP, 16-Leads, Body 5.1x4.5mm, Pitch 0.65mm, IPC Low Density)
footprint PW0016A_L (SOP, 16-Leads, Body 5.1x4.5mm, Pitch 0.65mm, IPC High Density)
part A pins: 1 CLEAR (in), 2 Q1 (out), 3 Q1 (out), 4 D1 (in), 5 D2 (in), 6 Q2 (out), 7 Q2 (out), 9 CLOCK (in), 10 Q3 (out), 11 Q3 (out), 12 D3 (in), 13 D4 (in), 14 Q4 (out), 15 Q4 (out)
part B pins: 8 VSS (power), 16 VDD (power)

## CD40194BE
designator U?
CMOS 4-Bit Bidirectional Universal Shift Register, N0016A, TUBE; Generic Part Number: CD40194B; Manufacturer: Texas Instruments; PartNumber: CD40194BE; Technology Family: CD4000; VCC(Min)(V): 3; VCC(Max)(V): 18; Voltage(Nom)(V): 10; F @ Nom Voltage(Max)(Mhz): 8; ICC @ Nom Voltage(Max)(mA): 0.3; tpd @ Nom Voltage(Max)(ns): 200; Output Drive (IOL/IOH)(Max)(mA): 1.5/-1.5; 3-State Output: No; Rating: Catalog; Bits: 4; DatasheetVersion: SCHS107B; PackageReference: N0016A; Input Type: CMOS; Output Type: CMOS; Operating Temperature Range(C): -55 to 125; Code_JEDEC: MS-001; ComponentLink1Description: Manufacturer URL; ComponentLink1URL: http://www.ti.com/; ComponentLink2Description: Datasheet; ComponentLink2URL: http://www.ti.com/lit/ds/symlink/cd40194b.pdf; ComponentLink3Description: Package Specification; ComponentLink3URL: http://www.ti.com/lit/ml/mpdi002c/mpdi002c.pdf
footprint N0016A (DIP, 16-Leads, Body 19.7x6.6mm, Pitch 2.54mm)
pins: 1 ~{RST} (in), 2 SHIFT R (in), 3 D0 (in), 4 D1 (in), 5 D2 (in), 6 D3 (in), 7 SHIFT L (in), 8 VSS (power), 9 S0 (in), 10 S1 (in), 11 CLK (in), 12 Q3 (out), 13 Q2 (out), 14 Q1 (out), 15 Q0 (out), 16 VDD (power)

## CLVC373AQDWRG4Q1
designator U?
Automotive Catalog Octal Transparent D-Type Latch With 3-State Outputs, DW0020A, LARGE T&R; Generic Part Number: SN74LVC373A-Q1; Manufacturer: Texas Instruments; PartNumber: CLVC373AQDWRG4Q1; VCC(Min)(V): 2; VCC(Max)(V): 3.6; Output Type: CMOS; Logic: True; Static Current: 0.01; Input Type: CMOS,TTL; Bits(#): 8; F @ Nom Voltage(Max)(Mhz): 100; Technology Family: LVC; Voltage(Nom)(V): 2.7,3.3; Schmitt Trigger: No; Output Drive (IOL/IOH)(Max)(mA): 24/-24; Output Logic: Non-inverted; 3-State Output: Yes; tpd @ Nom Voltage(Max)(ns): 8.5,7.5; DatasheetVersion: SCAS710B; PackageReference: DW0020A; Supplier 1: Digi-Key; Supplier Part Number 1: CLVC373AQDWRG4Q1-ND; Supplier 2: Mouser; Supplier Part Number 2: 595-CLVC373AQDWRG4Q1; ICC @ Nom Voltage(Max)(mA): 0.01; Operating Temperature Range(C): -40 to 125; Rating: Automotive; Code_JEDEC: MS-013; ComponentLink1Description: Manufacturer URL; ComponentLink1URL: http://www.ti.com/; ComponentLink2Description: Datasheet; ComponentLink2URL: http://www.ti.com/lit/ds/symlink/sn74lvc373a-q1.pdf; ComponentLink3Description: Package Specification; ComponentLink3URL: http://www.ti.com/lit/ml/mpds173a/mpds173a.pdf
footprint DW0020A_N (SOIC, 20-Leads, Body 13x7.6mm, Pitch 1.27mm, IPC Medium Density)
footprint DW0020A_M (SOIC, 20-Leads, Body 13x7.6mm, Pitch 1.27mm, IPC Low Density)
footprint DW0020A_L (SOIC, 20-Leads, Body 13x7.6mm, Pitch 1.27mm, IPC High Density)
pins: 1 ~{OE} (in) "Output Enable", 2 1Q (hiz) "1Q Output", 3 1D (in) "1D Input", 4 2D (in) "2D Input", 5 2Q (hiz) "2Q Output", 6 3Q (hiz) "3Q Output", 7 3D (in) "3D Input", 8 4D (in) "4D Input", 9 4Q (hiz) "4Q Output", 10 GND (power) "Ground Pin", 11 LE (in) "Latch Enable", 12 5Q (hiz) "5Q Output", 13 5D (in) "5D Input", 14 6D (in) "6D Input", 15 6Q (hiz) "6Q Output", 16 7Q (hiz) "7Q Output", 17 7D (in) "7D Input", 18 8D (in) "8D Input", 19 8Q (hiz) "8Q Output", 20 VCC (power) "Power Pin"

## CLVC373AQPWRG4Q1
designator U?
Automotive Catalog Octal Transparent D-Type Latch With 3-State Outputs, PW0020A, LARGE T&R; Generic Part Number: SN74LVC373A-Q1; Manufacturer: Texas Instruments; PartNumber: CLVC373AQPWRG4Q1; VCC(Min)(V): 2; VCC(Max)(V): 3.6; Output Type: CMOS; Logic: True; Static Current: 0.01; Input Type: CMOS,TTL; Bits(#): 8; F @ Nom Voltage(Max)(Mhz): 100; Technology Family: LVC; Voltage(Nom)(V): 2.7,3.3; Schmitt Trigger: No; Output Drive (IOL/IOH)(Max)(mA): 24/-24; Output Logic: Non-inverted; 3-State Output: Yes; tpd @ Nom Voltage(Max)(ns): 8.5,7.5; DatasheetVersion: SCAS710B; PackageReference: PW0020A; Supplier 1: Digi-Key; Supplier Part Number 1: CLVC373AQPWRG4Q1-ND; Supplier 2: Mouser; Supplier Part Number 2: 595-CLVC373AQPWRG4Q1; ICC @ Nom Voltage(Max)(mA): 0.01; Operating Temperature Range(C): -40 to 125; Rating: Automotive; Code_JEDEC: MO-153; ComponentLink1Description: Manufacturer URL; ComponentLink1URL: http://www.ti.com/; ComponentLink2Description: Datasheet; ComponentLink2URL: http://www.ti.com/lit/ds/symlink/sn74lvc373a-q1.pdf; ComponentLink3Description: Package Specification; ComponentLink3URL: http://www.ti.com/lit/ml/mpds362/mpds362.pdf
footprint PW0020A_N (SOP, 20-Leads, Body 6.6x4.5mm, Pitch 0.65mm, IPC Medium Density)
footprint PW0020A_M (SOP, 20-Leads, Body 6.6x4.5mm, Pitch 0.65mm, IPC Low Density)
footprint PW0020A_L (SOP, 20-Leads, Body 6.6x4.5mm, Pitch 0.65mm, IPC High Density)
pins: 1 ~{OE} (in) "Output Enable", 2 1Q (hiz) "1Q Output", 3 1D (in) "1D Input", 4 2D (in) "2D Input", 5 2Q (hiz) "2Q Output", 6 3Q (hiz) "3Q Output", 7 3D (in) "3D Input", 8 4D (in) "4D Input", 9 4Q (hiz) "4Q Output", 10 GND (power) "Ground Pin", 11 LE (in) "Latch Enable", 12 5Q (hiz) "5Q Output", 13 5D (in) "5D Input", 14 6D (in) "6D Input", 15 6Q (hiz) "6Q Output", 16 7Q (hiz) "7Q Output", 17 7D (in) "7D Input", 18 8D (in) "8D Input", 19 8Q (hiz) "8Q Output", 20 VCC (power) "Power Pin"

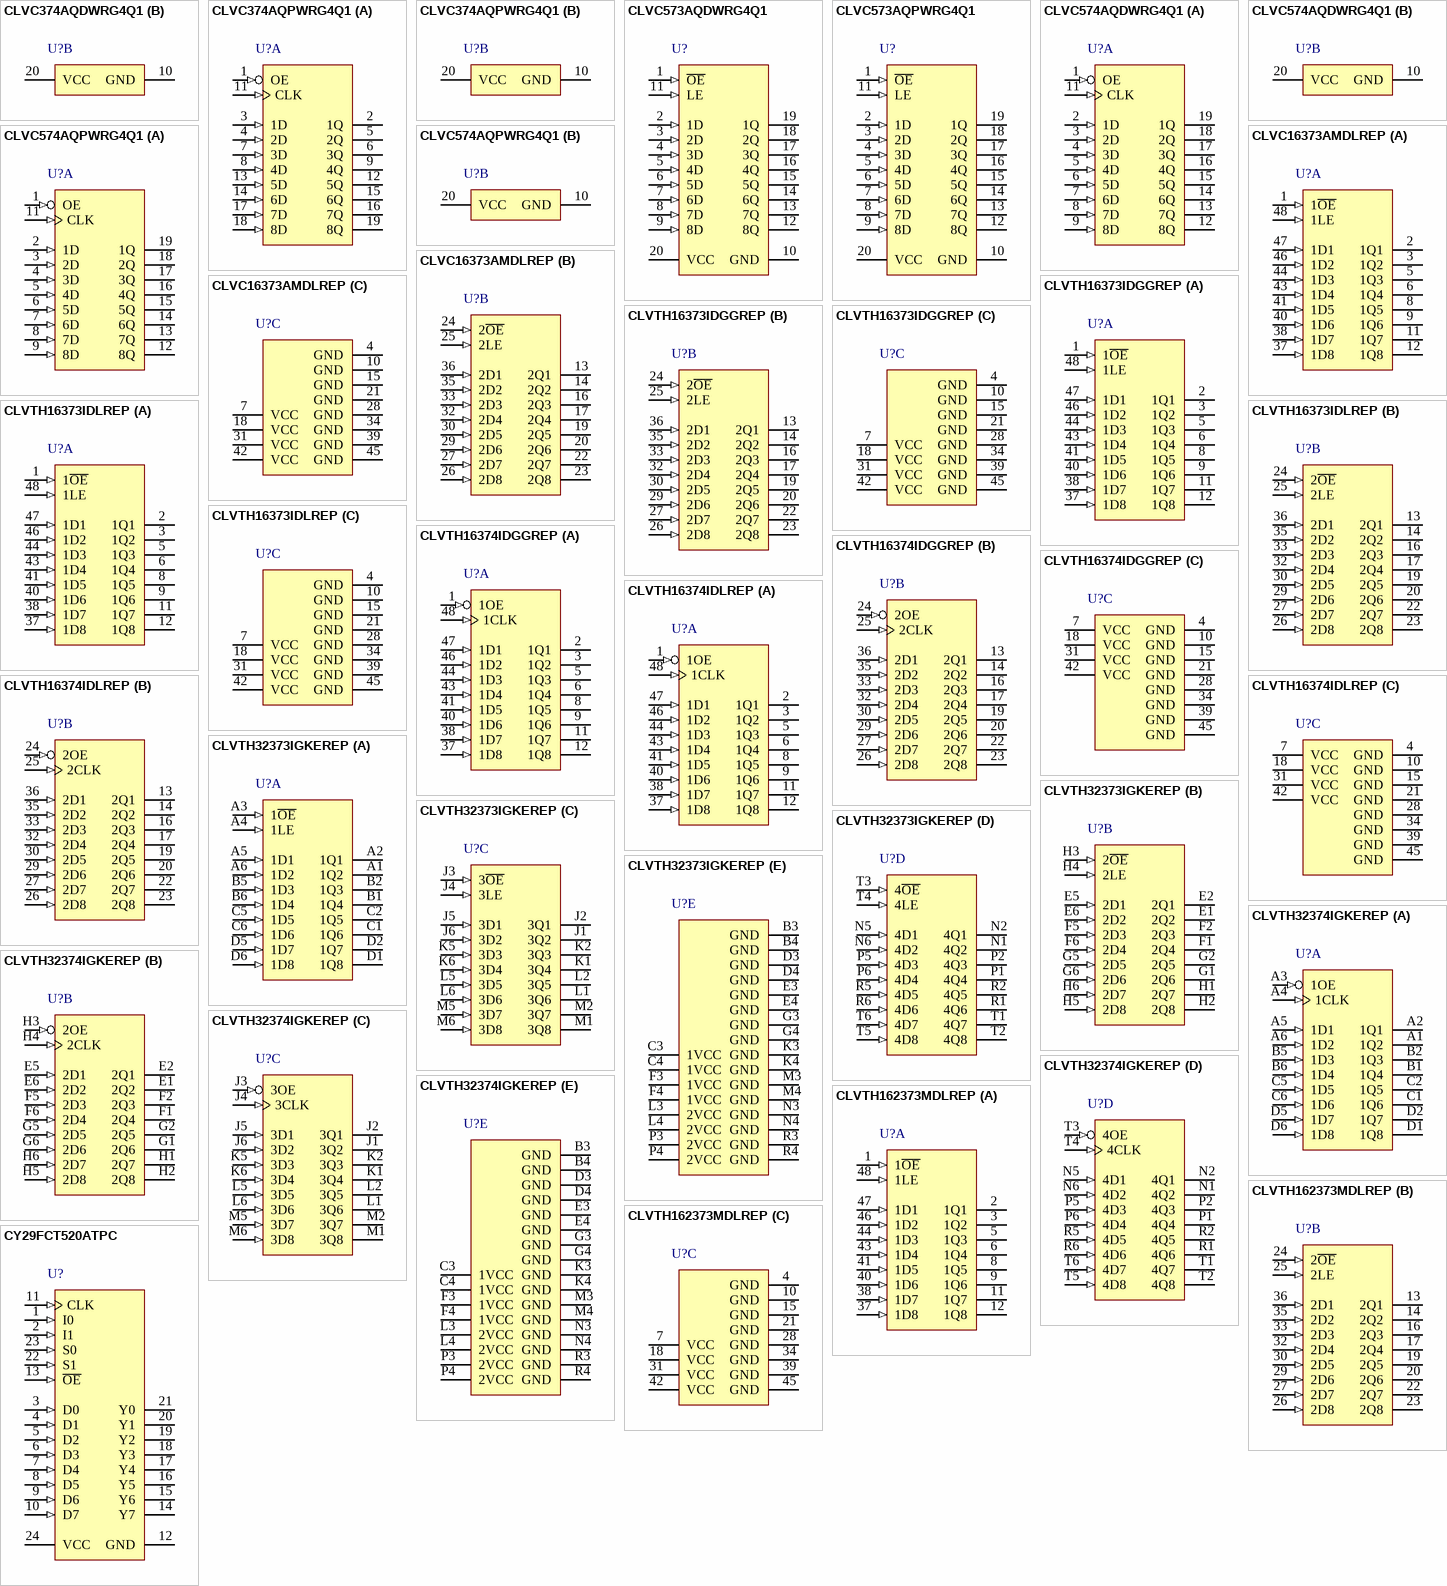
[diagram p23: symbols CLVC374AQDWRG4Q1 to CY29FCT520ATPC]

## CLVC374AQDWRG4Q1
designator U?
Automotive Catalog Octal Edge-Triggered D-Type Flip-Flops With 3-State Outputs, DW0020A, LARGE T&R; Generic Part Number: SN74LVC374A-Q1; Manufacturer: Texas Instruments; PartNumber: CLVC374AQDWRG4Q1; VCC(Min)(V): 2; VCC(Max)(V): 3.6; Output Type: CMOS; ICC @ Nom Voltage(Max)(mA): 0.01; Input Type: TTL,CMOS; Bits(#): 8; F @ Nom Voltage(Max)(Mhz): 100; Technology Family: LVC; Voltage(Nom)(V): 2.7,3.3; Schmitt Trigger: No; Output Drive (IOL/IOH)(Max)(mA): 24/-24; Output Logic: Non-inverted; 3-State Output: Yes; tpd @ Nom Voltage(Max)(ns): 9.5,8.5; DatasheetVersion: SCAS711B; PackageReference: DW0020A; Supplier 1: Digi-Key; Supplier Part Number 1: CLVC374AQDWRG4Q1-ND; Operating Temperature Range(C): -40 to 125; Rating: Automotive; Code_JEDEC: MS-013; ComponentLink1Description: Manufacturer URL; ComponentLink1URL: http://www.ti.com/; ComponentLink2Description: Datasheet; ComponentLink2URL: http://www.ti.com/lit/ds/symlink/sn74lvc374a-q1.pdf; ComponentLink3Description: Package Specification; ComponentLink3URL: http://www.ti.com/lit/ml/mpds173a/mpds173a.pdf
footprint DW0020A_N (SOIC, 20-Leads, Body 13x7.6mm, Pitch 1.27mm, IPC Medium Density)
footprint DW0020A_M (SOIC, 20-Leads, Body 13x7.6mm, Pitch 1.27mm, IPC Low Density)
footprint DW0020A_L (SOIC, 20-Leads, Body 13x7.6mm, Pitch 1.27mm, IPC High Density)
part A pins: 1 OE (in), 2 1Q (hiz), 3 1D (in), 4 2D (in), 5 2Q (hiz), 6 3Q (hiz), 7 3D (in), 8 4D (in), 9 4Q (hiz), 11 CLK (in), 12 5Q (hiz), 13 5D (in), 14 6D (in), 15 6Q (hiz), 16 7Q (hiz), 17 7D (in), 18 8D (in), 19 8Q (hiz)
part B pins: 10 GND (power), 20 VCC (power)

## CLVC374AQPWRG4Q1
designator U?
Automotive Catalog Octal Edge-Triggered D-Type Flip-Flops With 3-State Outputs, PW0020A, LARGE T&R; Generic Part Number: SN74LVC374A-Q1; Manufacturer: Texas Instruments; PartNumber: CLVC374AQPWRG4Q1; VCC(Min)(V): 2; VCC(Max)(V): 3.6; Output Type: CMOS; ICC @ Nom Voltage(Max)(mA): 0.01; Input Type: TTL,CMOS; Bits(#): 8; F @ Nom Voltage(Max)(Mhz): 100; Technology Family: LVC; Voltage(Nom)(V): 2.7,3.3; Schmitt Trigger: No; Output Drive (IOL/IOH)(Max)(mA): 24/-24; Output Logic: Non-inverted; 3-State Output: Yes; tpd @ Nom Voltage(Max)(ns): 9.5,8.5; DatasheetVersion: SCAS711B; PackageReference: PW0020A; Supplier 1: Digi-Key; Supplier Part Number 1: CLVC374AQPWRG4Q1-ND; Supplier 2: Mouser; Supplier Part Number 2: 595-CLVC374AQPWRG4Q1; Operating Temperature Range(C): -40 to 125; Rating: Automotive; Code_JEDEC: MO-153; ComponentLink1Description: Manufacturer URL; ComponentLink1URL: http://www.ti.com/; ComponentLink2Description: Datasheet; ComponentLink2URL: http://www.ti.com/lit/ds/symlink/sn74lvc374a-q1.pdf; ComponentLink3Description: Package Specification; ComponentLink3URL: http://www.ti.com/lit/ml/mpds362/mpds362.pdf
footprint PW0020A_N (SOP, 20-Leads, Body 6.6x4.5mm, Pitch 0.65mm, IPC Medium Density)
footprint PW0020A_M (SOP, 20-Leads, Body 6.6x4.5mm, Pitch 0.65mm, IPC Low Density)
footprint PW0020A_L (SOP, 20-Leads, Body 6.6x4.5mm, Pitch 0.65mm, IPC High Density)
part A pins: 1 OE (in), 2 1Q (hiz), 3 1D (in), 4 2D (in), 5 2Q (hiz), 6 3Q (hiz), 7 3D (in), 8 4D (in), 9 4Q (hiz), 11 CLK (in), 12 5Q (hiz), 13 5D (in), 14 6D (in), 15 6Q (hiz), 16 7Q (hiz), 17 7D (in), 18 8D (in), 19 8Q (hiz)
part B pins: 10 GND (power), 20 VCC (power)

## CLVC573AQDWRG4Q1
designator U?
Automotive Catalog Octal Transparent D-Type Latches With 3-State Outputs, DW0020A, LARGE T&R; Generic Part Number: SN74LVC573A-Q1; Manufacturer: Texas Instruments; PartNumber: CLVC573AQDWRG4Q1; VCC(Min)(V): 2; VCC(Max)(V): 3.6; Output Type: CMOS; Logic: True; Static Current: 0.01; Input Type: CMOS,TTL; Bits(#): 8; F @ Nom Voltage(Max)(Mhz): 100; Technology Family: LVC; Voltage(Nom)(V): 2.7,3.3; Schmitt Trigger: No; Output Drive (IOL/IOH)(Max)(mA): 24/-24; Output Logic: Non-inverted; 3-State Output: Yes; tpd @ Nom Voltage(Max)(ns): 7.7,6.9; DatasheetVersion: SCAS714B; PackageReference: DW0020A; Supplier 1: Digi-Key; Supplier Part Number 1: CLVC573AQDWRG4Q1-ND; Supplier 2: Mouser; Supplier Part Number 2: 595-CLVC573AQDWRG4Q1; ICC @ Nom Voltage(Max)(mA): 0.01; Operating Temperature Range(C): -40 to 125; Rating: Automotive; Code_JEDEC: MS-013; ComponentLink1Description: Manufacturer URL; ComponentLink1URL: http://www.ti.com/; ComponentLink2Description: Datasheet; ComponentLink2URL: http://www.ti.com/lit/ds/symlink/sn74lvc573a-q1.pdf; ComponentLink3Description: Package Specification; ComponentLink3URL: http://www.ti.com/lit/ml/mpds173a/mpds173a.pdf
footprint DW0020A_N (SOIC, 20-Leads, Body 13x7.6mm, Pitch 1.27mm, IPC Medium Density)
footprint DW0020A_M (SOIC, 20-Leads, Body 13x7.6mm, Pitch 1.27mm, IPC Low Density)
footprint DW0020A_L (SOIC, 20-Leads, Body 13x7.6mm, Pitch 1.27mm, IPC High Density)
pins: 1 ~{OE} (in), 2 1D (in), 3 2D (in), 4 3D (in), 5 4D (in), 6 5D (in), 7 6D (in), 8 7D (in), 9 8D (in), 10 GND (power), 11 LE (in), 12 8Q (hiz), 13 7Q (hiz), 14 6Q (hiz), 15 5Q (hiz), 16 4Q (hiz), 17 3Q (hiz), 18 2Q (hiz), 19 1Q (hiz), 20 VCC (power)

## CLVC573AQPWRG4Q1
designator U?
Automotive Catalog Octal Transparent D-Type Latches With 3-State Outputs, PW0020A, LARGE T&R; Generic Part Number: SN74LVC573A-Q1; Manufacturer: Texas Instruments; PartNumber: CLVC573AQPWRG4Q1; VCC(Min)(V): 2; VCC(Max)(V): 3.6; Output Type: CMOS; Logic: True; Static Current: 0.01; Input Type: CMOS,TTL; Bits(#): 8; F @ Nom Voltage(Max)(Mhz): 100; Technology Family: LVC; Voltage(Nom)(V): 2.7,3.3; Schmitt Trigger: No; Output Drive (IOL/IOH)(Max)(mA): 24/-24; Output Logic: Non-inverted; 3-State Output: Yes; tpd @ Nom Voltage(Max)(ns): 7.7,6.9; DatasheetVersion: SCAS714B; PackageReference: PW0020A; Supplier 1: Digi-Key; Supplier Part Number 1: CLVC573AQPWRG4Q1-ND; Supplier 2: Mouser; Supplier Part Number 2: 595-CLVC573AQPWRG4Q1; ICC @ Nom Voltage(Max)(mA): 0.01; Operating Temperature Range(C): -40 to 125; Rating: Automotive; Code_JEDEC: MO-153; ComponentLink1Description: Manufacturer URL; ComponentLink1URL: http://www.ti.com/; ComponentLink2Description: Datasheet; ComponentLink2URL: http://www.ti.com/lit/ds/symlink/sn74lvc573a-q1.pdf; ComponentLink3Description: Package Specification; ComponentLink3URL: http://www.ti.com/lit/ml/mpds362/mpds362.pdf
footprint PW0020A_N (SOP, 20-Leads, Body 6.6x4.5mm, Pitch 0.65mm, IPC Medium Density)
footprint PW0020A_M (SOP, 20-Leads, Body 6.6x4.5mm, Pitch 0.65mm, IPC Low Density)
footprint PW0020A_L (SOP, 20-Leads, Body 6.6x4.5mm, Pitch 0.65mm, IPC High Density)
pins: 1 ~{OE} (in), 2 1D (in), 3 2D (in), 4 3D (in), 5 4D (in), 6 5D (in), 7 6D (in), 8 7D (in), 9 8D (in), 10 GND (power), 11 LE (in), 12 8Q (hiz), 13 7Q (hiz), 14 6Q (hiz), 15 5Q (hiz), 16 4Q (hiz), 17 3Q (hiz), 18 2Q (hiz), 19 1Q (hiz), 20 VCC (power)

## CLVC574AQDWRG4Q1
designator U?
Automotive Catalog Octal Edge-Triggered D-Type Flip-Flop With 3-State Outputs, DW0020A, LARGE T&R; Generic Part Number: SN74LVC574A-Q1; Manufacturer: Texas Instruments; PartNumber: CLVC574AQDWRG4Q1; VCC(Min)(V): 2; VCC(Max)(V): 3.6; Output Type: CMOS; ICC @ Nom Voltage(Max)(mA): 0.01; Input Type: TTL,CMOS; Bits(#): 8; F @ Nom Voltage(Max)(Mhz): 100; Technology Family: LVC; Voltage(Nom)(V): 2.7,3.3; Schmitt Trigger: No; Output Drive (IOL/IOH)(Max)(mA): 24/-24; Output Logic: Non-inverted; 3-State Output: Yes; tpd @ Nom Voltage(Max)(ns): 8,7; DatasheetVersion: SCAS715B; PackageReference: DW0020A; Supplier 1: Digi-Key; Supplier Part Number 1: CLVC574AQDWRG4Q1-ND; Supplier 2: Mouser; Supplier Part Number 2: 595-CLVC574AQDWRG4Q1; Operating Temperature Range(C): -40 to 125; Rating: Automotive; Code_JEDEC: MS-013; ComponentLink1Description: Manufacturer URL; ComponentLink1URL: http://www.ti.com/; ComponentLink2Description: Datasheet; ComponentLink2URL: http://www.ti.com/lit/ds/symlink/sn74lvc574a-q1.pdf; ComponentLink3Description: Package Specification; ComponentLink3URL: http://www.ti.com/lit/ml/mpds173a/mpds173a.pdf
footprint DW0020A_N (SOIC, 20-Leads, Body 13x7.6mm, Pitch 1.27mm, IPC Medium Density)
footprint DW0020A_M (SOIC, 20-Leads, Body 13x7.6mm, Pitch 1.27mm, IPC Low Density)
footprint DW0020A_L (SOIC, 20-Leads, Body 13x7.6mm, Pitch 1.27mm, IPC High Density)
part A pins: 1 OE (in), 2 1D (in), 3 2D (in), 4 3D (in), 5 4D (in), 6 5D (in), 7 6D (in), 8 7D (in), 9 8D (in), 11 CLK (in), 12 8Q (hiz), 13 7Q (hiz), 14 6Q (hiz), 15 5Q (hiz), 16 4Q (hiz), 17 3Q (hiz), 18 2Q (hiz), 19 1Q (hiz)
part B pins: 10 GND (power), 20 VCC (power)

## CLVC574AQPWRG4Q1
designator U?
Automotive Catalog Octal Edge-Triggered D-Type Flip-Flop With 3-State Outputs, PW0020A, LARGE T&R; Generic Part Number: SN74LVC574A-Q1; Manufacturer: Texas Instruments; PartNumber: CLVC574AQPWRG4Q1; VCC(Min)(V): 2; VCC(Max)(V): 3.6; Output Type: CMOS; ICC @ Nom Voltage(Max)(mA): 0.01; Input Type: TTL,CMOS; Bits(#): 8; F @ Nom Voltage(Max)(Mhz): 100; Technology Family: LVC; Voltage(Nom)(V): 2.7,3.3; Schmitt Trigger: No; Output Drive (IOL/IOH)(Max)(mA): 24/-24; Output Logic: Non-inverted; 3-State Output: Yes; tpd @ Nom Voltage(Max)(ns): 8,7; DatasheetVersion: SCAS715B; PackageReference: PW0020A; Supplier 1: Digi-Key; Supplier Part Number 1: 296-23791-2-ND; Supplier 2: Digi-Key; Supplier Part Number 2: 296-23791-1-ND; Supplier 3: Digi-Key; Supplier Part Number 3: 296-23791-6-ND; Supplier 4: Mouser; Supplier Part Number 4: 595-CLVC574AQPWRG4Q1; Operating Temperature Range(C): -40 to 125; Rating: Automotive; Code_JEDEC: MO-153; ComponentLink1Description: Manufacturer URL; ComponentLink1URL: http://www.ti.com/; ComponentLink2Description: Datasheet; ComponentLink2URL: http://www.ti.com/lit/ds/symlink/sn74lvc574a-q1.pdf; ComponentLink3Description: Package Specification; ComponentLink3URL: http://www.ti.com/lit/ml/mpds362/mpds362.pdf
footprint PW0020A_N (SOP, 20-Leads, Body 6.6x4.5mm, Pitch 0.65mm, IPC Medium Density)
footprint PW0020A_M (SOP, 20-Leads, Body 6.6x4.5mm, Pitch 0.65mm, IPC Low Density)
footprint PW0020A_L (SOP, 20-Leads, Body 6.6x4.5mm, Pitch 0.65mm, IPC High Density)
part A pins: 1 OE (in), 2 1D (in), 3 2D (in), 4 3D (in), 5 4D (in), 6 5D (in), 7 6D (in), 8 7D (in), 9 8D (in), 11 CLK (in), 12 8Q (hiz), 13 7Q (hiz), 14 6Q (hiz), 15 5Q (hiz), 16 4Q (hiz), 17 3Q (hiz), 18 2Q (hiz), 19 1Q (hiz)
part B pins: 10 GND (power), 20 VCC (power)

## CLVC16373AMDLREP
designator U?
Enhanced Product 16-Bit Transparent D-Type Latch With 3-State Outputs, DL0048A, LARGE T&R; Generic Part Number: SN74LVC16373A-EP; Manufacturer: Texas Instruments; PartNumber: CLVC16373AMDLREP; VCC(Min)(V): 1.65; VCC(Max)(V): 3.6; Output Type: CMOS; ICC @ Nom Voltage(Max)(mA): 0.02; Input Type: CMOS,TTL; Bits(#): 16; F @ Nom Voltage(Max)(Mhz): 100; Rating: HiRel Enhanced Product; Technology Family: LVC; Voltage(Nom)(V): 2.5,2.7,3.3; Schmitt Trigger: No; Output Drive (IOL/IOH)(Max)(mA): 24/-24; Output Logic: Non-inverted; 3-State Output: Yes; tpd @ Nom Voltage(Max)(ns): 5.2,4.9,4.2; DatasheetVersion: SCAS825; PackageReference: DL0048A; Supplier 1: Digi-Key; Supplier Part Number 1: 296-22109-2-ND; Supplier 2: Digi-Key; Supplier Part Number 2: 296-22109-1-ND; Supplier 3: Digi-Key; Supplier Part Number 3: 296-22109-6-ND; Supplier 4: Mouser; Supplier Part Number 4: 595-CLVC16373AMDLREP; Operating Temperature Range(C): -55 to 125; Code_JEDEC: MO-118; ComponentLink1Description: Manufacturer URL; ComponentLink1URL: http://www.ti.com/; ComponentLink2Description: Datasheet; ComponentLink2URL: http://www.ti.com/lit/ds/symlink/sn74lvc16373a-ep.pdf; ComponentLink3Description: Package Specification; ComponentLink3URL: http://www.ti.com/lit/ml/mpds490/mpds490.pdf
footprint DL0048A_N (SOP, 48-Leads, Body 7.6x16mm, Pitch 0.635mm, IPC Medium Density)
footprint DL0048A_M (SOP, 48-Leads, Body 7.6x16mm, Pitch 0.635mm, IPC Low Density)
footprint DL0048A_L (SOP, 48-Leads, Body 7.6x16mm, Pitch 0.635mm, IPC High Density)
part A pins: 1 1~{OE} (in) "Output Enable 1", 2 1Q1 (hiz) "1Q1 Output", 3 1Q2 (hiz) "1Q2 Output", 5 1Q3 (hiz) "1Q3 Output", 6 1Q4 (hiz) "1Q4 Output", 8 1Q5 (hiz) "1Q5 Output", 9 1Q6 (hiz) "1Q6 Output", 11 1Q7 (hiz) "1Q7 Output", 12 1Q8 (hiz) "1Q8 Output", 37 1D8 (in) "1D8 Input", 38 1D7 (in) "1D7 Input", 40 1D6 (in) "1D6 Input", 41 1D5 (in) "1D5 Input", 43 1D4 (in) "1D4 Input", 44 1D3 (in) "1D3 Input", 46 1D2 (in) "1D2 Input", 47 1D1 (in) "1D1 Input", 48 1LE (in) "Latch Enable 1"
part B pins: 13 2Q1 (hiz) "2Q1 Output", 14 2Q2 (hiz) "2Q2 Output", 16 2Q3 (hiz) "2Q3 Output", 17 2Q4 (hiz) "2Q4 Output", 19 2Q5 (hiz) "Output", 20 2Q6 (hiz) "2Q6 Output", 22 2Q7 (hiz) "2Q7 Output", 23 2Q8 (hiz) "2Q8 Output", 24 2~{OE} (in) "Output Enable 2", 25 2LE (in) "2LE Input", 26 2D8 (in) "2D8 Input", 27 2D7 (in) "2D7 Input", 29 2D6 (in) "2D6 Input", 30 2D5 (in) "2D5 Input", 32 2D4 (in) "2D4 Input", 33 2D3 (in) "2D3 Input", 35 2D2 (in) "2D2 Input", 36 2D1 (in) "2D1 Input"
part C pins: 4 GND (power) "Ground Pin", 7 VCC (power) "Power Pin", 10 GND (power) "Ground Pin", 15 GND (power) "Ground Pin", 18 VCC (power) "Power Pin", 21 GND (power) "Ground Pin", 28 GND (power) "Ground Pin", 31 VCC (power) "Power Pin", 34 GND (power) "Ground Pin", 39 GND (power) "Ground Pin", 42 VCC (power) "Power Pin", 45 GND (power) "Ground Pin"